# Altium footprint library dpfootprint.PcbLib: 90 footprints (part 6 of 6)
Each footprint in its own frame and in the unit in brackets; x right, y up, seen from the top. Pads: shape width x height; smd on the part's side, far side on the other; paste and mask are expansions set on the pad; w line width, h text height; cw(c..) or ccw(c..) is an arc to the next point about the centre after c.
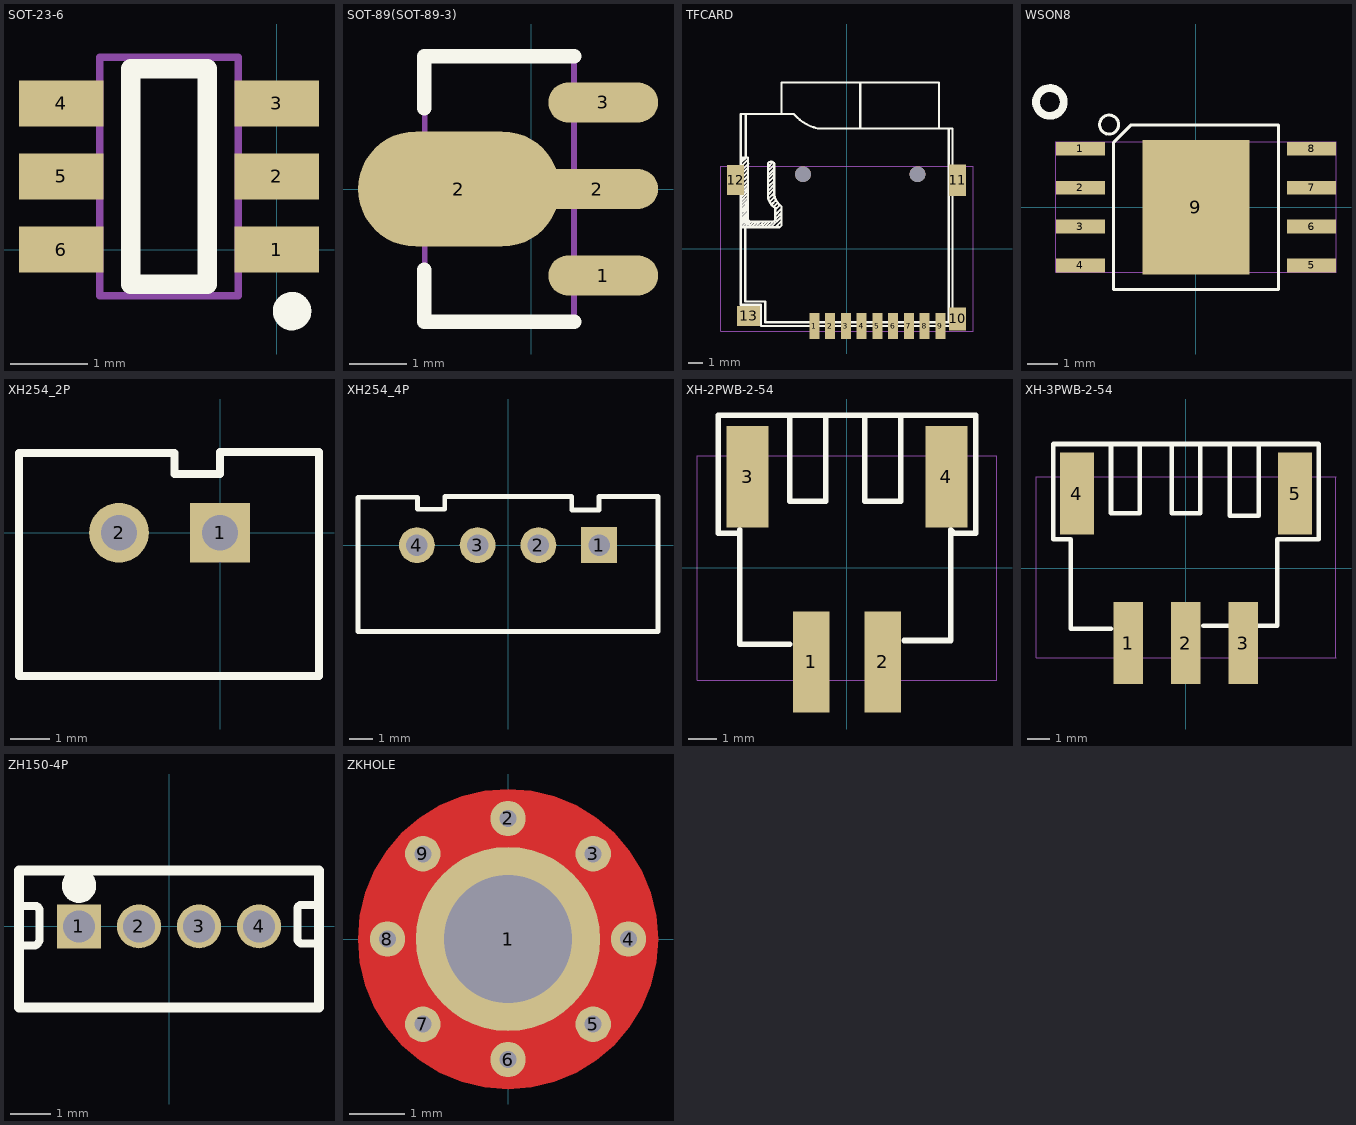
[diagram p5: the footprints below, top view; thin cyan lines are the x and y axes]

## SOT-23-6 [mm]
pads (6):
  rect 1.1x0.6 smd: 1(0,0) 2(0,0.95) 3(0,1.9) 4(-2.8,1.9) 5(-2.8,0.95) 6(-2.8,0)
Top Overlay:
  circle w0.25: c0.2,-0.8 r0.125
  lines w0.254: -1.9,-0.45 -0.9,-0.45 -0.9,2.35 -1.9,2.35 -1.9,-0.45
Mechanical 13:
  lines w0.1: -2.3,-0.6 -0.5,-0.6 -0.5,2.5 -2.3,2.5 -2.3,-0.6

## SOT-89(SOT-89-3) [mm]
pads (4):
  oval 1.9x0.7 smd: 1(1.25,-1.5) 3(1.25,1.5)
  oval 3.5x2 smd: 2(-1.25,0)
  oval 2.1x0.7 smd: 2(1.15,0)
Top Overlay:
  lines w0.254: -1.85,-1.4 -1.85,-2.3 0.75,-2.3 ; -1.85,1.4 -1.85,2.3 0.75,2.3
Mechanical 13:
  lines w0.1: -1.845,-2.3 -1.845,2.3 0.745,2.3 0.745,-2.3 -1.845,-2.3
3D body: height 1.51, standoff 0, extent -2.5,-2.25 1.8,2.25

## TFCARD [mm] "TFCARD"
pads (15):
  rect 0.7x1.8 smd: 1(-2.275,-5.4) 2(-1.175,-5.4) 3(-0.075,-5.4) 4(1.025,-5.4) 5(2.125,-5.4) 6(3.225,-5.4) 7(4.325,-5.4) 8(5.425,-5.4) 9(6.525,-5.4)
  rect 1.2x1.6 smd: 10(7.725,-4.9)
  rect 1.2x2.2 smd: 11(7.725,4.8)
  rect 1.2x2.1 smd: 12(-7.775,4.8)
  rect 1.6x1.397 smd: 13(-6.875,-4.68)
  round 1.1 hole 1.1: " "(-3.075,5.2) " "(4.925,5.2)
Top Overlay:
  lines w0.152: -7.426,2.267 -6.943,2.751 ; -7.426,2.67 -6.943,3.153 ; -7.424,4.602 -6.941,5.086 ; -7.419,2.484 -6.936,2.967 ; -7.419,5.165 -6.936,5.648 ; -7.416,5.996 -7.048,6.364 ; -7.417,6.201 -7.251,6.368 ; -7.415,2.893 -6.931,3.377 ; -7.412,3.579 -6.928,4.063 ; -7.412,3.8 -6.928,4.284 ; -7.412,4.305 -6.928,4.788 ; -7.41,3.118 -6.926,3.601 ; -7.409,4.04 -6.926,4.524 ; -7.409,4.904 -6.925,5.388 ; -7.409,5.722 -6.925,6.206 ; -7.407,2.068 -6.923,2.551 ; -7.404,3.356 -6.92,3.839 ; -7.403,1.668 -6.919,2.152 ; -7.403,1.876 -6.92,2.36 ; -7.384,5.462 -6.9,5.945 ; -7.357,1.496 -6.874,1.979 ; -7.136,1.494 -6.735,1.895 ; -6.909,1.491 -6.507,1.893 ; -6.67,1.5 -6.269,1.901 ; -6.449,1.498 -6.048,1.899 ; -6.222,1.496 -5.821,1.897 ; -6.008,1.496 -5.607,1.897 ; -5.787,1.493 -5.386,1.894 ; -5.559,1.491 -5.158,1.892 ; -5.526,5.436 -5.124,5.837 ; -5.518,5.713 -5.19,6.041 ; -5.514,4.638 -5.113,5.039 ; -5.506,4.058 -5.105,4.459 ; -5.507,4.915 -5.106,5.316 ; -5.501,5.145 -5.1,5.546 ; -5.489,3.489 -5.088,3.891 ; -5.489,4.346 -5.088,4.748 ; -5.401,3.273 -5.043,3.631 -5.081,3.706 ; -5.314,1.503 -4.608,2.209 ; -5.27,3.087 -4.968,3.389 ; -5.113,4.182 -5.514,3.781 -5.524,3.678 ; -4.998,2.384 -4.597,2.785 ; -4.984,1.517 -4.583,1.918 ; -4.973,2.092 -4.572,2.494 ; -4.837,3.223 -5.122,2.939 -5.005,2.848 ; -4.7,3.044 -5,2.744 -5.005,2.848 ; -4.576,9.4 -4.575,11.6 6.425,11.6 6.425,8.401 ; -3.707,9.401 ccw(c-1.36,11.427) -2.058,8.406 -2.046,8.403 ; -3.706,9.4 ccw(c-1.325,11.484) -2.046,8.403 ; 0.925,8.4 0.925,11.596 ; -5.524,3.678 ccw(c-4.478,3.754) -5.005,2.848 ; -5.524,3.678 -5.524,5.96 cw(c-5.302,5.825) -5.081,5.96 -5.081,3.706 ; -5.08,3.706 ccw(c-3.701,4.072) -4.565,2.936 -4.565,1.644 -4.71,1.498 -7.425,1.498 -7.403,6.371 -6.903,6.371 -6.903,2.018 -6.779,1.893 -5.136,1.893 -5.005,2.024 -5.005,2.848 ; -2.046,8.403 7.375,8.401 7.375,-5.4 -6.013,-5.4 -6.013,-3.914 -7.423,-3.914 -7.425,9.4 -3.722,9.4 -7.072,9.398 -7.072,6.374 -7.425,6.374 -7.425,1.499 -7.099,1.499 -7.099,-3.676 -5.71,-3.676 -5.71,-5.133 7.1,-5.133 7.099,8.403 -2.046,8.403
Mechanical 12:
  lines w0.025: -8.825,-5.75 8.825,-5.75 8.825,5.75 -8.825,5.75 -8.825,-5.75

## WSON8 [mm] "WSON8"
pads (9):
  rect 1.6x0.45 smd: 1(-3.775,1.905) 2(-3.775,0.635) 3(-3.775,-0.635) 4(-3.775,-1.905) 5(3.775,-1.905) 6(3.775,-0.635) 7(3.775,0.635) 8(3.775,1.905)
  rect 3.5x4.4 smd: 9(0,0)
Top Overlay:
  circle w0.254: c-4.775,3.437 r0.453
  circle w0.1: c-2.842,2.697 r0.312
  lines w0.1: -2.69,-2.69 2.69,-2.69 2.69,2.69 -2.115,2.69 -2.69,2.115 -2.69,-2.69
Mechanical 9:
  text "9" at -0.284,0 h0.71
Mechanical 12:
  lines w0.025: -4.575,-2.13 4.575,-2.13 4.575,2.13 -4.575,2.13 -4.575,-2.13
Mechanical 13:
  lines w0.025: -4.575,-2.13 4.575,-2.13 4.575,2.13 -4.575,2.13 -4.575,-2.13

## XH254_2P [mm]
pads (2):
  rect 1.5x1.5 hole 0.9: 1(0,0)
  round 1.5 hole 0.9: 2(-2.54,0)
Top Overlay:
  lines w0.2: -5.055,-3.607 2.489,-3.607 2.489,2.032 0,2.032 0,1.473 -1.143,1.473 -1.143,2.007 -5.055,2.007 -5.055,-3.607

## XH254_4P [mm] "XH254-4P"
pads (4):
  rect 1.5x1.5 hole 0.9: 1(3.81,0)
  round 1.5 hole 0.9: 2(1.27,0) 3(-1.27,0) 4(-3.81,0)
Top Overlay:
  lines w0.2: -6.274,-3.607 -6.274,2.007 -3.785,2.007 -3.785,1.499 -2.642,1.499 -2.642,2.032 2.667,2.032 2.667,1.473 3.81,1.473 3.81,2.032 6.274,2.032 6.274,-3.607 -6.274,-3.607

## XH-2PWB-2-54 [mil] "XH-2PWB-2-54"
pads (4):
  rect 51.18x141.73 smd: 1(-49.92,-131.5) 2(50.08,-131.5)
  rect 59.06x141.73 smd: 3(-139.05,127.56) 4(139.06,127.56)
Top Overlay:
  lines w7.87: -149.92,48.5 -154.92,48.5 -179.92,48.5 -179.92,213.5 -149.92,213.5 145.08,213.5 180.08,213.5 180.08,48.5 150.08,48.5 145.08,53.5 145.08,-101.5 80.08,-101.5 ; -149.92,53.5 -149.92,-106.5 -79.92,-106.5 ; -79.92,213.5 -79.92,143.5 -79.92,93.5 -29.92,93.5 -29.92,213.5 ; 25.08,213.5 25.08,93.5 75.08,93.5 75.08,213.5
Mechanical 12:
  lines w1: -209.92,-157.09 209.92,-157.09 209.92,157.08 -209.92,157.08 -209.92,-157.09

## XH-3PWB-2-54 [mm]
pads (5):
  rect 1.3x3.6 smd: 1(-2.538,-3.29) 2(-0.011,-3.29) 3(2.517,-3.29)
  rect 1.5x3.6 smd: 4(-4.802,3.29) 5(4.802,3.29)
Top Overlay:
  lines w0.2: -5.078,1.244 -5.078,-2.655 -3.3,-2.655 ; -5.078,1.282 -5.205,1.282 -5.84,1.282 -5.84,5.473 -5.078,5.473 2.415,5.473 5.842,5.473 5.842,1.282 4.013,1.282 4.013,-2.528 0.764,-2.528 ; -3.3,5.473 -3.3,3.695 -3.3,2.425 -2.03,2.425 -2.03,5.473 ; -0.633,5.473 -0.633,2.425 0.637,2.425 0.637,5.473 ; 1.932,5.371 1.932,2.323 3.202,2.323 3.202,5.371
Mechanical 12:
  lines w0.025: 6.602,-3.94 6.602,4.04 ; 6.604,-3.94 -6.602,-3.94 -6.602,4.04 6.604,4.04

## ZH150-4P [mm] "ZH150-4P"
pads (4):
  rect 1.1x1.1 hole 0.8: 1(-2.25,0)
  round 1.1 hole 0.8: 2(-0.75,0) 3(0.75,0) 4(2.25,0)
Top Overlay:
  circle w0.5: c-2.25,1.016 r0.18
  lines w0.2: -3.75,0.508 -3.342,0.508 cw(c-3.342,0.406) -3.241,0.406 -3.241,-0.33 cw(c-3.393,-0.33) -3.393,-0.483 -3.698,-0.483 ccw(c-3.698,-0.533) -3.749,-0.533 ; 3.719,-0.406 cw(c3.694,-0.406) 3.694,-0.432 3.338,-0.432 cw(c3.338,-0.305) 3.211,-0.305 3.211,0.432 cw(c3.313,0.432) 3.313,0.533 3.75,0.533
  lines w0.254: -3.75,-2.032 3.75,-2.032 3.75,1.4 -3.75,1.4 -3.75,-2.032

## ZKHOLE [mil] "ZKHOLE"
pads (9):
  round 130 hole 90: 1(0,0)
  round 25 hole 12: 2(0,85) 3(60.1,60.1) 4(85,0) 5(60.1,-60.1) 6(0,-85) 7(-60.1,-60.1) 8(-85,0) 9(-60.1,60.1)
Top Layer:
  region: 0,-105.81 16.55,-104.5 32.7,-100.63 48.03,-94.27 62.19,-85.6 74.82,-74.82 85.6,-62.19 94.27,-48.03 100.63,-32.7 104.5,-16.55 105.81,0 104.5,16.55 100.63,32.7 94.27,48.03 85.6,62.19 74.82,74.82 62.19,85.6 48.03,94.27 32.7,100.63 16.55,104.5 0,105.81 -16.55,104.5 -32.7,100.63 -48.03,94.27 -62.19,85.6 -74.82,74.82 -85.6,62.19 -94.27,48.03 -100.63,32.7 -104.5,16.55 -105.81,0 -104.5,-16.55 -100.63,-32.7 -94.27,-48.03 -85.6,-62.19 -74.82,-74.82 -62.19,-85.6 -48.03,-94.27 -32.7,-100.63 -16.55,-104.5